# Altium schematic symbol library SN74HC164PWR.SchLib: 1 symbol
Pins are listed as number, name and electrical type; pins without a type are passive.

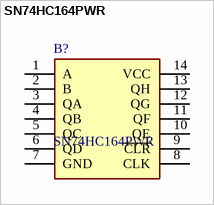
[diagram p0: symbol SN74HC164PWR]

## SN74HC164PWR
designator B?
8-Bit Parallel-Out Serial Shift Registers; Manufacturer_Name: Texas Instruments; Geometry.Height: 1.2mm; Manufacturer_Part_Number: SN74HC164PWR; Mouser Part Number: 595-SN74HC164PWR; Mouser Price/Stock: https://www.mouser.co.uk/ProductDetail/Texas-Instruments/SN74HC164PWR?qs=rgxfVHSNRPUUA6cIRqtUEQ%3D%3D; Arrow Part Number: SN74HC164PWR; Arrow Price/Stock: https://www.arrow.com/en/products/sn74hc164pwr/texas-instruments?utm_currency=USD&region=nac; Datasheet Link: http://www.ti.com/lit/gpn/sn74hc164
footprint SOP65P640X120-14N
pins: 1 A, 2 B, 3 QA, 4 QB, 5 QC, 6 QD, 7 GND, 8 CLK, 9 ~{CLR}, 10 QE, 11 QF, 12 QG, 13 QH, 14 VCC